# Altium schematic symbol library my_battery.SCHLIB: 60 symbols
Pins are listed as number, name and electrical type; pins without a type are passive.

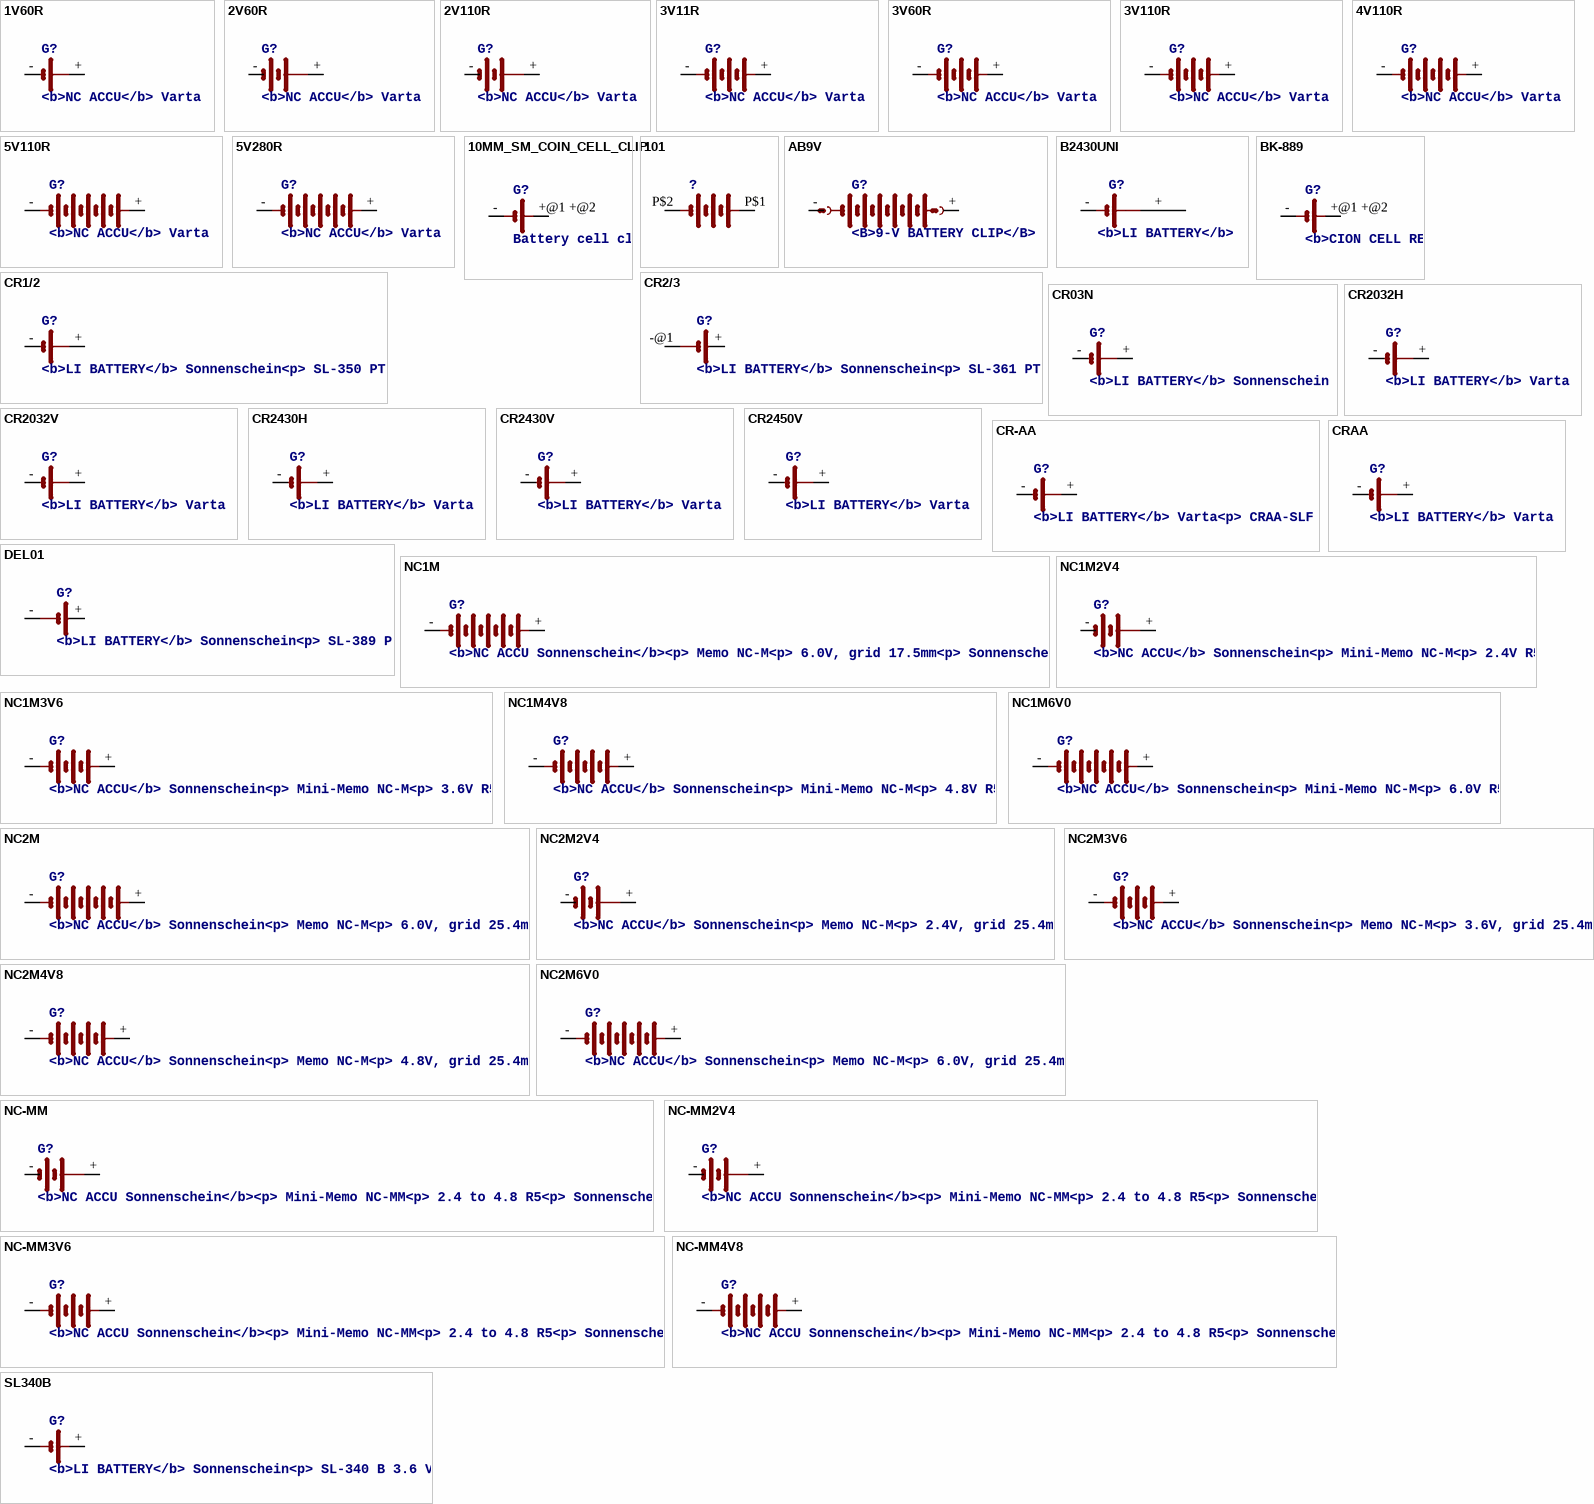
[diagram p0: symbols 1V60R to SL340B]

## 1V60R
designator G?, comment <b>NC ACCU</b> Varta
footprint 1V60R
pins: +, +@1 +, -

## 2V60R
designator G?, comment <b>NC ACCU</b> Varta
footprint 2V60R
pins: +, +@1 +, -

## 2V110R
designator G?, comment <b>NC ACCU</b> Varta
footprint 2V110R
pins: +, +@1 +, -

## 3V11R
designator G?, comment <b>NC ACCU</b> Varta
footprint 3V11R
pins: +, -

## 3V60R
designator G?, comment <b>NC ACCU</b> Varta
footprint 3V60R
pins: +, +@1 +, -

## 3V110R
designator G?, comment <b>NC ACCU</b> Varta
footprint 3V110R
pins: +, +@1 +, -

## 4V110R
designator G?, comment <b>NC ACCU</b> Varta
footprint 4V110R
pins: +, +@1 +, -

## 5V110R
designator G?, comment <b>NC ACCU</b> Varta
footprint 5V110R
pins: +, +@1 +, -

## 5V280R
designator G?, comment <b>NC ACCU</b> Varta
footprint 5V280R
pins: +, +@1 +, -

## 10MM_SM_COIN_CELL_CLIP
designator G?, comment Battery cell clip for CR927<p> / Source: KEYSTONE ELECTRONICS CORP.<br> / www.keyelco.com, ASTORIA, N.Y. 11105-2017<br> / PART ANME 10mm SM COIN CELl CLIP<br> / DWG NO. 3030
footprint 10MM_SM_COIN_CELL_CLIP
pins: +@1 +@2 +, -

## 101
designator ?
footprint KEYSTONE101
pins: P$1 +, P$2 -

## AB9V
designator G?, comment <B>9-V BATTERY CLIP</B>
footprint AB9V
pins: +, -

## B2430UNI
designator G?, comment <b>LI BATTERY</b>
footprint B2430UNI
pins: +, +@1 +, +@2 +, +@3 +, +@4 +, -, -@1 -

## BK-889
designator G?, comment <b>CION CELL RETAINER FOR 23mm DIA. BATTERIES</B> BR2320, CL2320, CR2320, BR2325, CR2325, DL2325, BR2330, CL2330<p> / Source: MEMORY PROTECTION DEVICES; Inc.  BK-889-datasheet.pdf
footprint BK-889
pins: +@1 +@2 +, -

## CR1/2
designator G?, comment <b>LI BATTERY</b> Sonnenschein<p> / SL-350 PT
footprint CR1/2
pins: +, +@1 +, -

## CR2/3
designator G?, comment <b>LI BATTERY</b> Sonnenschein<p> / SL-361 PT
footprint CR2/3
pins: +, -@1 -, -@2 -

## CR03N
designator G?, comment <b>LI BATTERY</b> Sonnenschein
footprint CR03N
pins: +, +@1 +, -

## CR2032H
designator G?, comment <b>LI BATTERY</b> Varta
footprint CR2032H
pins: +, +@1 +, -

## CR2032V
designator G?, comment <b>LI BATTERY</b> Varta
footprint CR2032V
pins: +, +@1 +, -

## CR2430H
designator G?, comment <b>LI BATTERY</b> Varta
footprint CR2430H
pins: +, +@1 +, -

## CR2430V
designator G?, comment <b>LI BATTERY</b> Varta
footprint CR2430V
pins: +, +@1 +, -

## CR2450V
designator G?, comment <b>LI BATTERY</b> Varta
footprint CR2450V
pins: +, +@1 +, -

## CR-AA
designator G?, comment <b>LI BATTERY</b> Varta<p> / CRAA-SLF
footprint CRAA
pins: +, +@1 +, -

## CRAA
designator G?, comment <b>LI BATTERY</b> Varta
footprint CRAA
pins: +, +@1 +, -

## DEL01
designator G?, comment <b>LI BATTERY</b> Sonnenschein<p> / SL-389 P
footprint DEL01
pins: +, -, -@1 -

## NC1M
designator G?, comment <b>NC ACCU Sonnenschein</b><p> / Memo NC-M<p> / 6.0V, grid 17.5mm<p> / Sonnenschein
footprint NC1M
pins: +, +@1 +, -

## NC1M2V4
designator G?, comment <b>NC ACCU</b> Sonnenschein<p> / Mini-Memo NC-M<p> / 2.4V R5
footprint NC1M
pins: +, +@1 +, -

## NC1M3V6
designator G?, comment <b>NC ACCU</b> Sonnenschein<p> / Mini-Memo NC-M<p> / 3.6V R5
footprint NC1M
pins: +, +@1 +, -

## NC1M4V8
designator G?, comment <b>NC ACCU</b> Sonnenschein<p> / Mini-Memo NC-M<p> / 4.8V R5
footprint NC1M
pins: +, +@1 +, -

## NC1M6V0
designator G?, comment <b>NC ACCU</b> Sonnenschein<p> / Mini-Memo NC-M<p> / 6.0V R5
footprint NC1M
pins: +, -

## NC2M
designator G?, comment <b>NC ACCU</b> Sonnenschein<p> / Memo NC-M<p> / 6.0V, grid 25.4mm
footprint NC2M
pins: +, +@1 +, -

## NC2M2V4
designator G?, comment <b>NC ACCU</b> Sonnenschein<p> / Memo NC-M<p> / 2.4V, grid 25.4mm
footprint NC2M
pins: +, +@1 +, -

## NC2M3V6
designator G?, comment <b>NC ACCU</b> Sonnenschein<p> / Memo NC-M<p> / 3.6V, grid 25.4mm
footprint NC2M
pins: +, +@1 +, -

## NC2M4V8
designator G?, comment <b>NC ACCU</b> Sonnenschein<p> / Memo NC-M<p> / 4.8V, grid 25.4mm
footprint NC2M
pins: +, +@1 +, -

## NC2M6V0
designator G?, comment <b>NC ACCU</b> Sonnenschein<p> / Memo NC-M<p> / 6.0V, grid 25.4mm
footprint NC2M
pins: +, +@1 +, -

## NC-MM
designator G?, comment <b>NC ACCU Sonnenschein</b><p> / Mini-Memo NC-MM<p> / 2.4 to 4.8 R5<p> / Sonnenschein
footprint NC-MM
pins: +, +@1 +, -

## NC-MM2V4
designator G?, comment <b>NC ACCU Sonnenschein</b><p> / Mini-Memo NC-MM<p> / 2.4 to 4.8 R5<p> / Sonnenschein
footprint NC-MM
pins: +, +@1 +, -

## NC-MM3V6
designator G?, comment <b>NC ACCU Sonnenschein</b><p> / Mini-Memo NC-MM<p> / 2.4 to 4.8 R5<p> / Sonnenschein
footprint NC-MM
pins: +, +@1 +, -

## NC-MM4V8
designator G?, comment <b>NC ACCU Sonnenschein</b><p> / Mini-Memo NC-MM<p> / 2.4 to 4.8 R5<p> / Sonnenschein
footprint NC-MM
pins: +, +@1 +, -

## SL340B
designator G?, comment <b>LI BATTERY</b> Sonnenschein<p> / SL-340 B 3.6 V
footprint SL-340/B3.6V
pins: +, -

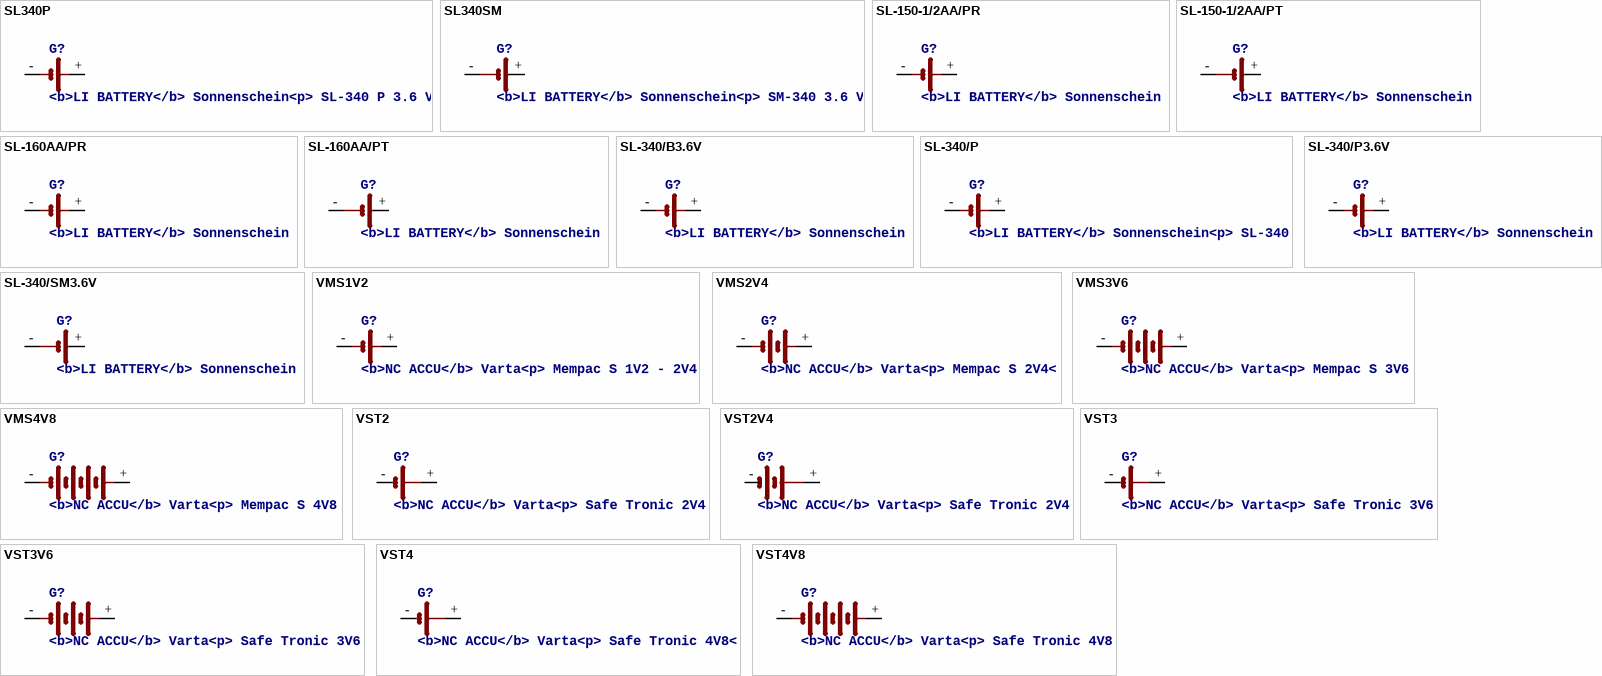
[diagram p1: symbols SL340P to VST4V8]

## SL340P
designator G?, comment <b>LI BATTERY</b> Sonnenschein<p> / SL-340 P 3.6 V
footprint SL-340/P3.6V
pins: +, -

## SL340SM
designator G?, comment <b>LI BATTERY</b> Sonnenschein<p> / SM-340 3.6 V
footprint SL-340/SM3.6V
pins: +, -, -@1 -

## SL-150-1/2AA/PR
designator G?, comment <b>LI BATTERY</b> Sonnenschein
footprint SL-150-1/2AA/PR
pins: +, -

## SL-150-1/2AA/PT
designator G?, comment <b>LI BATTERY</b> Sonnenschein
footprint SL-150-1/2AA/PT
pins: +, -, -@1 -

## SL-160AA/PR
designator G?, comment <b>LI BATTERY</b> Sonnenschein
footprint SL-160AA/PR
pins: +, -

## SL-160AA/PT
designator G?, comment <b>LI BATTERY</b> Sonnenschein
footprint SL-160AA/PT
pins: +, -, -@1 -

## SL-340/B3.6V
designator G?, comment <b>LI BATTERY</b> Sonnenschein
footprint SL-340/B3.6V
pins: +, -

## SL-340/P
designator G?, comment <b>LI BATTERY</b> Sonnenschein<p> / SL-340
footprint BEL/P
pins: +, -

## SL-340/P3.6V
designator G?, comment <b>LI BATTERY</b> Sonnenschein
footprint SL-340/P3.6V
pins: +, -

## SL-340/SM3.6V
designator G?, comment <b>LI BATTERY</b> Sonnenschein
footprint SL-340/SM3.6V
pins: +, -, -@1 -

## VMS1V2
designator G?, comment <b>NC ACCU</b> Varta<p> / Mempac S 1V2 - 2V4
footprint VMS1V2
pins: +, -

## VMS2V4
designator G?, comment <b>NC ACCU</b> Varta<p> / Mempac S 2V4<
footprint VMS1V2
pins: +, -

## VMS3V6
designator G?, comment <b>NC ACCU</b> Varta<p> / Mempac S 3V6
footprint VMS3V6
pins: +, -

## VMS4V8
designator G?, comment <b>NC ACCU</b> Varta<p> / Mempac S 4V8
footprint VMS4V8
pins: +, -

## VST2
designator G?, comment <b>NC ACCU</b> Varta<p> / Safe Tronic 2V4
footprint VST2
pins: +, +@1 +, -

## VST2V4
designator G?, comment <b>NC ACCU</b> Varta<p> / Safe Tronic 2V4
footprint VST2
pins: +, +@1 +, -

## VST3
designator G?, comment <b>NC ACCU</b> Varta<p> / Safe Tronic 3V6
footprint VST3
pins: +, +@1 +, -

## VST3V6
designator G?, comment <b>NC ACCU</b> Varta<p> / Safe Tronic 3V6
footprint VST3
pins: +, +@1 +, -

## VST4
designator G?, comment <b>NC ACCU</b> Varta<p> / Safe Tronic 4V8<
footprint VST4
pins: +, +@1 +, -

## VST4V8
designator G?, comment <b>NC ACCU</b> Varta<p> / Safe Tronic 4V8
footprint VST4
pins: +, +@1 +, -